# Altium footprint library 5-102618-3.PcbLib: 1 footprints
Each footprint in its own frame and in the unit in brackets; x right, y up, seen from the top. Pads: shape width x height; smd on the part's side, far side on the other; paste and mask are expansions set on the pad; w line width, h text height; cw(c..) or ccw(c..) is an arc to the next point about the centre after c.
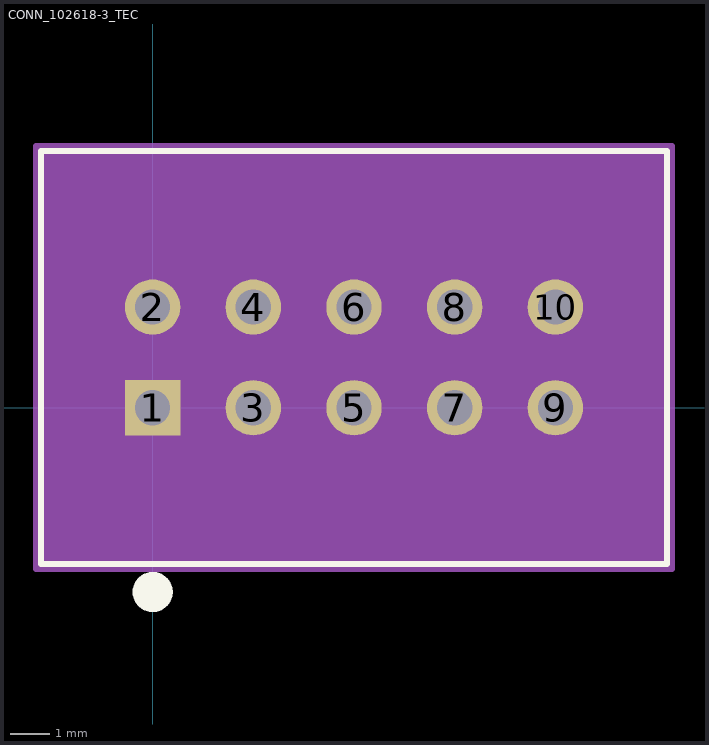
[diagram p0: the footprint, top view; thin cyan lines are the x and y axes]

## CONN_102618-3_TEC [mil]
pads (10):
  rect 55x55 / inner round 60 / far side rect 55x55 hole 35 paste-27.5 mask+0: 1(0,0)
  round 55 / inner round 60 / far side round 55 hole 35 paste-27.5 mask+0: 2(0,100) 3(100,0) 4(100,100) 5(200,0) 6(200,100) 7(300,0) 8(300,100) 9(400,0) 10(400,100)
Top Overlay:
  circle w20: c0,-183 r10
  lines w6: -111,-155 -111,255 511,255 511,-155 -111,-155
Mechanical 13:
  circle w0: c0,-135 r10
  lines w1: -106,-150 -106,250 506,250 506,-150 -106,-150
Mechanical 15:
  region: 516,260 -116,260 -116,-160 516,-160
  lines w6: -116,-160 516,-160 516,260 -116,260 -116,-160
3D body "CONN_102618-3_TEC.step": height 440, standoff -200, extent -50,-50 450,150